# EAGLE library part MMA8653 (library hidnSeek)
MMA8653 - Freescale 3-Axis, 10-bit Digital Accelerometer MMA8653 [Mouser: 841-MMA8653FCR1]
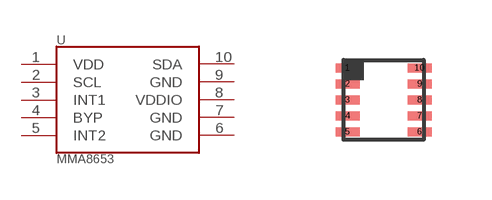
[diagram p0: symbol with the pads of DFN-10; footprint DFN-10]

Designator prefix U

## MMA8653  [DFN-10]
1  VDD  pwr
2  SCL
3  INT1
4  BYP
5  INT2
6  GND  pwr
7  GND  pwr
8  VDDIO  pwr
9  GND  pwr
10  SDA

## Footprint DFN-10 (pad centres in mm)
Source: http://www.freescale.com/files/sensors/doc/data_sheet/MMA8653FC.pdf
smd 0.6 x 0.225: 1 -0.9,0.8; 2 -0.9,0.4; 3 -0.9,0; 4 -0.9,-0.4; 5 -0.9,-0.8; 6 0.9,-0.8; 7 0.9,-0.4; 8 0.9,0; 9 0.9,0.4; 10 0.9,0.8